# EAGLE library part SR086 (library BQ25504)
Adjustable Off-Line Inductorless Switching Regulator
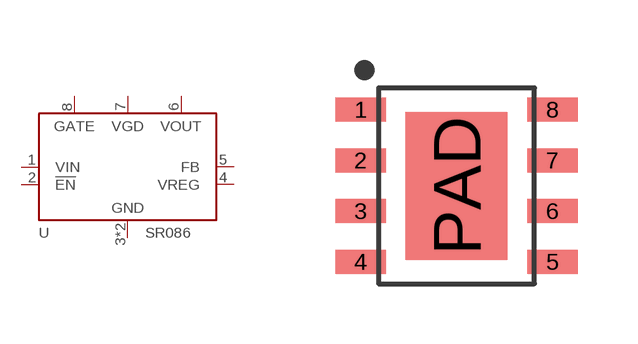
[diagram p10: symbol with the pads of SOIC-8-PAD; footprint SOIC-8-PAD]

Designator prefix U

## SR086SG-G (MOUSER: 689-SR086SG-G)  [SOIC-8-PAD]
1  VIN
2  !EN
3  GND
4  VREG
5  FB
6  VOUT
7  VGD
8  GATE
PAD  GND

## Footprint SOIC-8-PAD (pad centres in mm)
smd 1.27 x 0.6: 1 -2.4,1.905; 2 -2.4,0.635; 3 -2.4,-0.635; 4 -2.4,-1.905; 5 2.4,-1.905; 6 2.4,-0.635; 7 2.4,0.635; 8 2.4,1.905
smd 2.55 x 3.7: PAD 0,0